# Altium footprint library IHLP2020CZER3R3M11.PcbLib: 1 footprints
Each footprint in its own frame and in the unit in brackets; x right, y up, seen from the top. Pads: shape width x height; smd on the part's side, far side on the other; paste and mask are expansions set on the pad; w line width, h text height; cw(c..) or ccw(c..) is an arc to the next point about the centre after c.
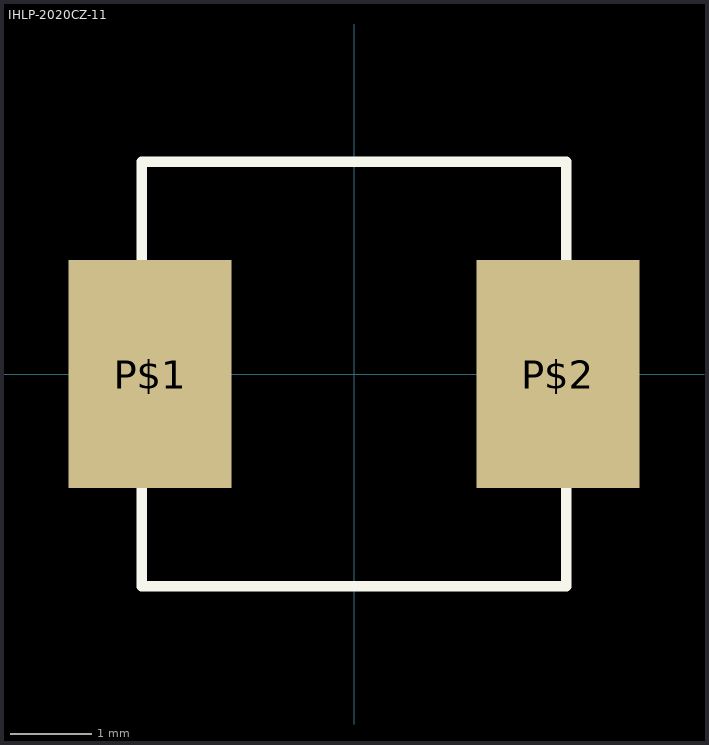
[diagram p0: the footprint, top view; thin cyan lines are the x and y axes]

## IHLP-2020CZ-11 [mm]
pads (2):
  rect 2x2.8 smd: P$1(-2.5,0) P$2(2.5,0)
Top Overlay:
  lines w0.127: -2.6,-2.6 -2.6,2.6 2.6,2.6 2.6,-2.6 -2.6,-2.6